# Altium footprint library Discrete.PcbLib: 10 footprints
Each footprint in its own frame and in the unit in brackets; x right, y up, seen from the top. Pads: shape width x height; smd on the part's side, far side on the other; paste and mask are expansions set on the pad; w line width, h text height; cw(c..) or ccw(c..) is an arc to the next point about the centre after c.
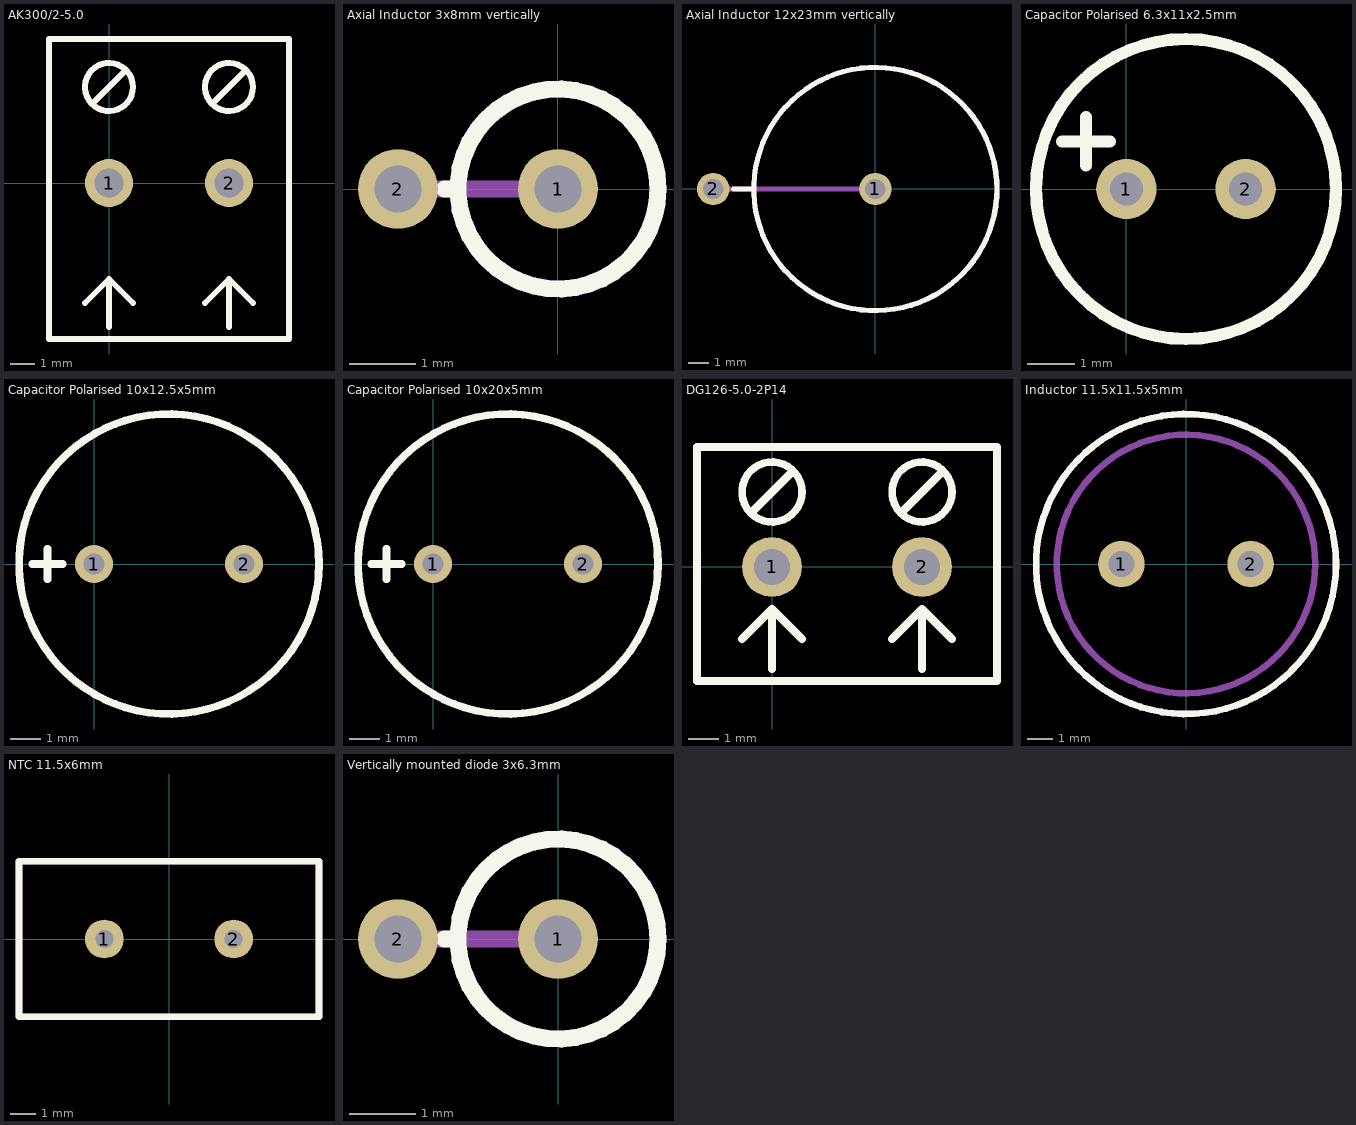
[diagram p0: the footprints below, top view; thin cyan lines are the x and y axes]

## AK300/2-5.0 [mm] "AK300/2-5.0"
height 12.5
pads (2):
  round 2 hole 1.2: 1(0,0) 2(5,0)
Top Overlay:
  circle w0.254: c0,4 r1
  circle w0.254: c5,4 r1
  lines w0.254: -1,-5 0,-4 ; -0.7,3.3 0.7,4.7 ; 0,-6 0,-4 ; 1,-5 0,-4 ; 4,-5 5,-4 ; 4.3,3.3 5.7,4.7 ; 5,-6 5,-4 ; 6,-5 5,-4 ; -2.5,-6.5 -2.5,6 7.5,6 7.5,-6.5 -2.5,-6.5
Mechanical 1:
  circle w0.254: c0,0 r0.4
  circle w0.254: c5,0 r0.4
  lines w0.254: -2.5,-6.5 7.5,-6.5 7.5,6 -2.5,6 -2.5,-6.5
3D body: height 12.5, standoff 0, extent -2.499,-6.499 7.499,5.999
3D body: height 3, standoff -2, extent -0.399,-0.399 0.399,0.399
3D body: height 3, standoff -2, extent 4.601,-0.399 5.399,0.399

## Axial Inductor 3x8mm vertically [mm] "Axial Inductor 3x8mm vertically"
height 8
pads (2):
  round 1.2 hole 0.7: 1(0,0) 2(-2.4,0)
Top Overlay:
  circle w0.254: c0,0 r1.5
  lines w0.254: -1.7,0 -1.5,0
Mechanical 1:
  circle w0.254: c0.001,0 r0.15
  circle w0.254: c-2.4,0 r0.15
  circle w0.254: c0,0 r1.5
  lines w0.254: -2.4,0 0,0
3D body: height 9.3, standoff -2, extent -0.299,-0.299 0.3,0.3
3D body: height 9, standoff 0, extent -1.701,-1.5 1.501,1.501
3D body: height 9.3, standoff -2, extent -2.699,-0.299 -2.1,0.299
3D body: height 9.3, standoff 9, extent -2.5,-0.1 0.2,0.1

## Axial Inductor 12x23mm vertically [mm] "Axial Inductor 12x23mm vertically"
height 23
pads (2):
  round 1.6 hole 1: 1(0,0) 2(-8,0)
Top Overlay:
  circle w0.254: c0,0 r6
  lines w0.254: -7,0 -6,0
Mechanical 1:
  circle w0.254: c-8,0 r0.3
  circle w0.254: c0,0 r6.001
  lines w0.254: -8,0 0,0
3D body: height 23.3, standoff -2, extent -0.299,-0.299 0.299,0.299
3D body: height 23.3, standoff -2, extent -8.299,-0.299 -7.701,0.299
3D body: height 23, standoff 0, extent -6,-6 6,6
3D body: height 23.3, standoff 23, extent -8.2,-0.2 0.2,0.2

## Capacitor Polarised 6.3x11x2.5mm [mm] "Capacitor Polarised 6.3x11x2.5mm"
height 11
pads (2):
  round 1.27 hole 0.7: 1(0,0) 2(2.5,0)
Top Overlay:
  circle w0.254: c1.25,0 r3.15
  lines w0.254: -1.358,1 -0.342,1 ; -0.85,0.492 -0.85,1.508
3D body: height 11.1, standoff 0.2, extent -0.75,-2 3.25,2
3D body: height 11, standoff 0, extent -1.899,-3.149 4.399,3.149
3D body: height 3, standoff -2, extent -0.399,-0.399 0.4,0.4
3D body: height 3, standoff -2, extent 2.101,-0.399 2.9,0.4

## Capacitor Polarised 10x12.5x5mm [mm] "Capacitor Polarised 10x12.5x5mm"
height 12.5
pads (2):
  round 1.27 hole 0.7: 1(0,0) 2(5,0)
Top Overlay:
  circle w0.254: c2.5,0 r5
  lines w0.254: -2.058,0 -1.042,0 ; -1.55,-0.508 -1.55,0.508
3D body: height 12.6, standoff 0.2, extent -1.2,-3.7 6.2,3.699
3D body: height 12.5, standoff 0, extent -2.499,-4.999 7.499,4.999
3D body: height 3, standoff -2, extent -0.399,-0.399 0.4,0.4
3D body: height 3, standoff -2, extent 4.601,-0.399 5.4,0.4

## Capacitor Polarised 10x20x5mm [mm] "Capacitor Polarised 10x20x5mm"
height 20
pads (2):
  round 1.27 hole 0.7: 1(0,0) 2(5,0)
Top Overlay:
  circle w0.254: c2.5,0 r5
  lines w0.254: -2.058,0 -1.042,0 ; -1.55,-0.508 -1.55,0.508
3D body: height 20.1, standoff 0.2, extent -1.2,-3.7 6.2,3.7
3D body: height 20, standoff 0, extent -2.499,-4.999 7.499,4.999
3D body: height 3, standoff -2, extent -0.399,-0.399 0.4,0.4
3D body: height 3, standoff -2, extent 4.601,-0.399 5.4,0.4

## DG126-5.0-2P14 [mm] "DG126-5.0-2P14"
height 10.2
pads (2):
  round 2 hole 1.2: 1(0,0) 2(5,0)
Top Overlay:
  circle w0.254: c0,2.5 r1
  circle w0.254: c5,2.5 r1
  lines w0.254: -1,-2.4 0,-1.4 ; -0.7,1.8 0.7,3.2 ; 0,-3.4 0,-1.4 ; 1,-2.4 0,-1.4 ; 4,-2.4 5,-1.4 ; 4.3,1.8 5.7,3.2 ; 5,-3.4 5,-1.4 ; 6,-2.4 5,-1.4 ; -2.5,-3.8 -2.5,4 7.5,4 7.5,-3.8 -2.5,-3.8
Mechanical 1:
  lines w0.254: -2.5,-3.8 7.5,-3.8 7.5,4 -2.5,4 -2.5,-3.8
3D body: height 12.5, standoff 0, extent -2.499,-3.8 7.499,4
3D body: height 3, standoff -2, extent -0.399,-0.399 0.4,0.4
3D body: height 3, standoff -2, extent 4.601,-0.399 5.4,0.4

## Inductor 11.5x11.5x5mm [mm] "Inductor 11.5x11.5x5mm"
height 11.5
pads (2):
  round 1.8 hole 1: 1(-2.5,0) 2(2.5,0)
Top Overlay:
  circle w0.254: c0,0 r5.8
Mechanical 1:
  circle w0.254: c0,0 r5
  circle w0.254: c0,0 r5.8
  circle w0.254: c0,0 r5.8
  circle w0.254: c-2.5,0 r0.4
  circle w0.254: c2.5,0 r0.4
3D body: height 3, standoff -2, extent 2.101,-0.399 2.899,0.399
3D body: height 3, standoff -2, extent -2.899,-0.399 -2.101,0.399
3D body: height 3, standoff 0, extent -5.799,-5.799 5.799,5.799
3D body: height 11.5, standoff 8.5, extent -5.799,-5.799 5.799,5.799
3D body: height 11.5, standoff 0, extent -4.999,-4.999 4.999,4.999

## NTC 11.5x6mm [mm] "NTC Protection thermisotr"
height 16
pads (2):
  round 1.5 hole 0.7: 1(-2.5,0) 2(2.5,0)
Top Overlay:
  lines w0.254: -5.8,-3 -5.8,3 5.8,3 5.8,-3 -5.8,-3
Mechanical 1:
  circle w0.254: c-2.5,0 r0.2
  circle w0.254: c2.5,0 r0.25
  lines w0.254: -5.8,-3 -5.8,3 5.8,3 5.8,-3 -5.8,-3
3D body: height 6, standoff -2, extent 2.251,-0.249 2.749,0.249
3D body: height 6, standoff -2, extent -2.699,-0.199 -2.301,0.199
3D body: height 16, standoff 4.5, extent -5.799,-2.999 5.799,2.999

## Vertically mounted diode 3x6.3mm [mm] "Vertically mounted diode 3x6.3mm"
height 8
pads (2):
  round 1.2 hole 0.7: 1(0,0) 2(-2.4,0)
Top Overlay:
  circle w0.254: c0,0 r1.5
  lines w0.254: -1.7,0 -1.5,0
Mechanical 1:
  circle w0.254: c-2.4,0 r0.15
  circle w0.254: c0,0 r1.5
  lines w0.254: -2.4,0 0,0
3D body: height 8.3, standoff -2, extent -0.299,-0.3 0.3,0.299
3D body: height 8, standoff 0, extent -1.701,-1.501 1.501,1.501
3D body: height 8.3, standoff -2, extent -2.699,-0.3 -2.1,0.299
3D body: height 8.3, standoff 8, extent -2.5,-0.1 0.2,0.1